# EAGLE library part SYPD2 (library custom_parts)
MiniCircuits Phase Detector
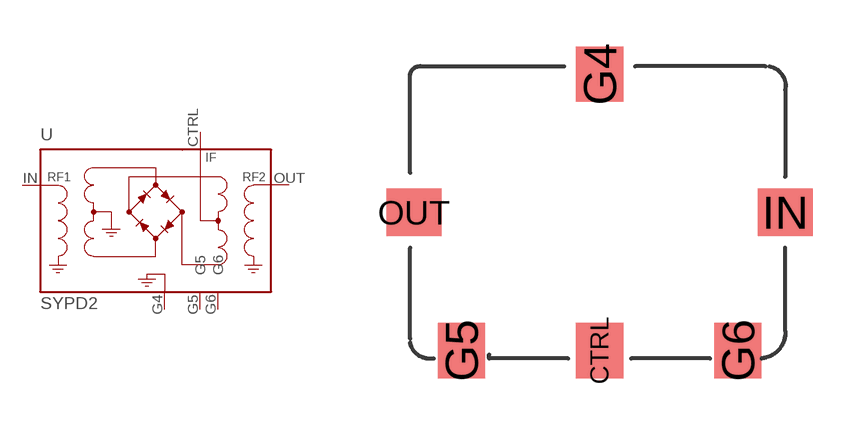
[diagram p17: symbol with the pads of TTT166; footprint TTT166]

Designator prefix -

## SYPD2  [TTT166]
CTRL  CTRL1  pas
G4  CASEGROUND  pas
G5  G5  pas
G6  G6  pas
IN  RF1  pas
OUT  RF2  pas

## Footprint TTT166 (pad centres in mm)
MiniCircuits TTT166/167 package
smd 1.524 x 1.778: CTRL 0,-4.445; G4 0,4.445; G5 -4.445,-4.445; G6 4.445,-4.445
smd 1.778 x 1.524: IN 5.969,0; OUT -5.969,0